# Altium footprint library IC_POWER_LIB.PcbLib: 3 footprints
Each footprint in its own frame and in the unit in brackets; x right, y up, seen from the top. Pads: shape width x height; smd on the part's side, far side on the other; paste and mask are expansions set on the pad; w line width, h text height; cw(c..) or ccw(c..) is an arc to the next point about the centre after c.
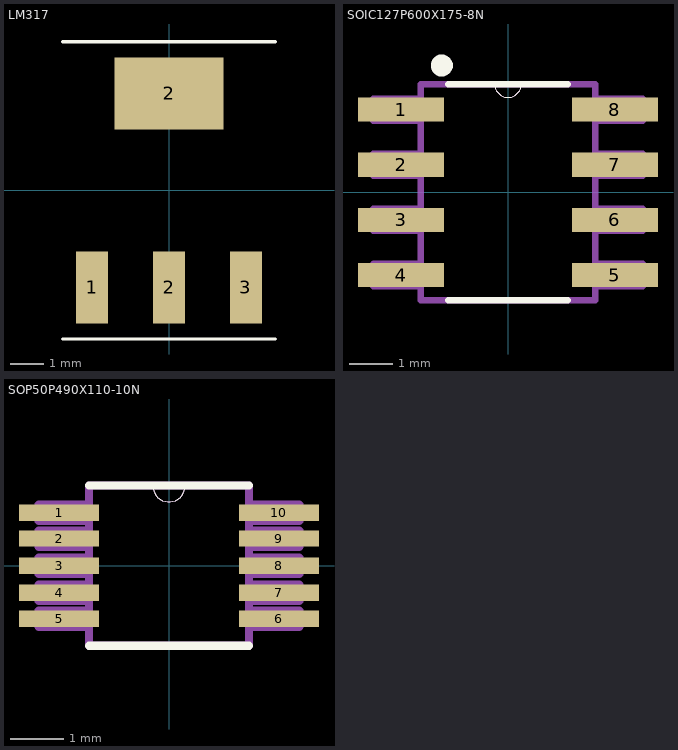
[diagram p0: the footprints below, top view; thin cyan lines are the x and y axes]

## LM317 [mm]
pads (4):
  rect 0.95x2.15 smd: 1(-2.3,-2.9) 2(0,-2.9) 3(2.3,-2.9)
  rect 3.25x2.15 smd: 2(0,2.9)
Top Overlay:
  lines w0.1: -3.175,-4.445 3.175,-4.445 ; -3.175,4.445 3.175,4.445

## SOIC127P600X175-8N [mil]
pads (8):
  rect 78x22 smd: 1(-97,75) 2(-97,25) 3(-97,-25) 4(-97,-75) 5(97,-75) 6(97,-25) 7(97,25) 8(97,75)
Top Overlay:
  circle w10: c-60,115 r5
  lines w0: -12,98 ccw(c0,98) 12,98
  lines w6: -54,-98 54,-98 ; -54,98 -12,98 12,98 54,98
Mechanical 13:
  lines w0: -12,98 ccw(c0,98) 12,98
  lines w6: -122,-85 -79,-85 -79,-65 -122,-65 -122,-85 ; -122,-35 -79,-35 -79,-15 -122,-15 -122,-35 ; -122,15 -79,15 -79,35 -122,35 -122,15 ; -122,65 -79,65 -79,85 -122,85 -122,65 ; -79,-98 -79,98 -12,98 12,98 79,98 79,-98 -79,-98 ; 79,-85 122,-85 122,-65 79,-65 79,-85 ; 79,-35 122,-35 122,-15 79,-15 79,-35 ; 79,15 122,15 122,35 79,35 79,15 ; 79,65 122,65 122,85 79,85 79,65
3D body "SOIC08 narrow.stp": height 78.74, standoff 0.13, extent -121.32,-98.42 121.32,98.43

## SOP50P490X110-10N [mil]
pads (10):
  rect 59x12 smd: 1(-81,39) 2(-81,20) 3(-81,0) 4(-81,-20) 5(-81,-39) 6(81,-39) 7(81,-20) 8(81,0) 9(81,20) 10(81,39)
Top Overlay:
  lines w0: -12,59 ccw(c0,59) 12,59
  lines w6: -59,-59 59,-59 ; -59,59 -12,59 12,59 59,59
Mechanical 11:
  lines w0: -12,59 ccw(c0,59) 12,59
  lines w6: -96,-45 -96,-33 -59,-33 -59,-45 -96,-45 ; -96,-26 -96,-14 -59,-14 -59,-26 -96,-26 ; -96,-6 -96,6 -59,6 -59,-6 -96,-6 ; -96,14 -96,26 -59,26 -59,14 -96,14 ; -96,33 -96,45 -59,45 -59,33 -96,33 ; -59,-59 59,-59 59,59 12,59 -12,59 -59,59 -59,-59 ; 59,-45 59,-33 96,-33 96,-45 59,-45 ; 59,-26 59,-14 96,-14 96,-26 59,-26 ; 59,-6 59,6 96,6 96,-6 59,-6 ; 59,14 59,26 96,26 96,14 59,14 ; 59,33 59,45 96,45 96,33 59,33
3D body "MSOP-10.stp": height 45.28, standoff 0, extent -96.45,-59.05 96.47,59.06